# EAGLE library part KONASHI-2.0 (library konashi-2.0)
Konashi 2.0 http://konashi.ux-xu.com/documents/
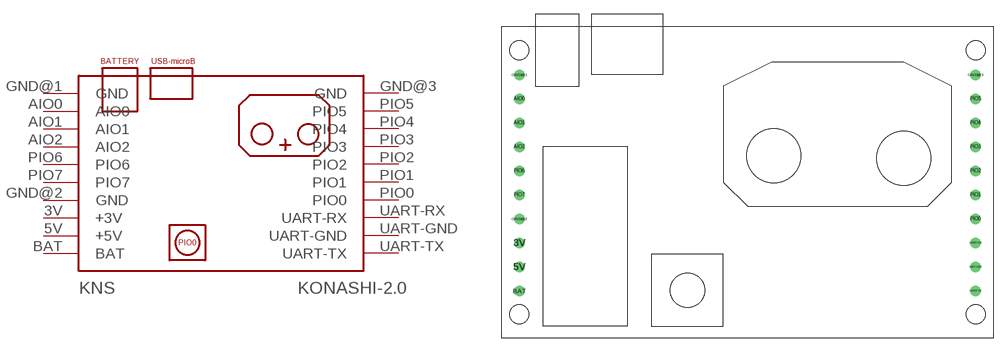
[diagram p0: symbol with the pads of KONASHI-2.0; footprint KONASHI-2.0]

Designator prefix KNS

## KONASHI-2.0  [KONASHI-2.0]
3V  +3V  pas
5V  +5V  pas
AIO0  AIO0
AIO1  AIO1
AIO2  AIO2
BAT  BAT  pas
GND@1  GND  pas
GND@2  GND  pas
GND@3  GND  pas
PIO0  PIO0
PIO1  PIO1
PIO2  PIO2
PIO3  PIO3
PIO4  PIO4
PIO5  PIO5
PIO6  PIO6
PIO7  PIO7
UART-GND  UART-GND  pas
UART-RX  UART-RX
UART-TX  UART-TX

## Footprint KONASHI-2.0 (pad centres in mm)
drill 0.6: 3V -24.13,10.08; 5V -24.13,7.54; AIO0 -24.13,25.32; AIO1 -24.13,22.78; AIO2 -24.13,20.24; BAT -24.13,5; GND@1 -24.13,27.86; GND@2 -24.13,12.62; GND@3 24.13,27.86; PIO0 24.13,12.62; PIO1 24.13,15.16; PIO2 24.13,17.7; PIO3 24.13,20.24; PIO4 24.13,22.78; PIO5 24.13,25.32; PIO6 -24.13,17.7; PIO7 -24.13,15.16; UART-GND 24.13,7.54; UART-RX 24.13,10.08; UART-TX 24.13,5
hole 2 at -24.13,30.48
hole 2 at 24.13,30.48
hole 2 at 24.13,2.54
hole 2 at -24.13,2.54